# EAGLE library part MCP2561 (library west-eagle-library)
MCP2561/2 High-Speed CAN Transeiver <https://ww1.microchip.com/downloads/en/DeviceDoc/20005167C.pdf>
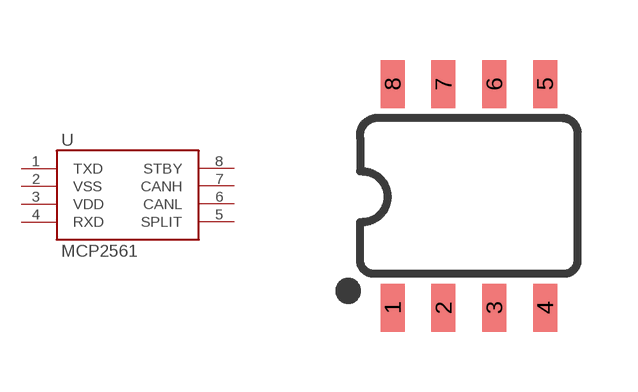
[diagram p1: symbol with the pads of SO08; footprint SO08]

Designator prefix -

## MCP2561  [SO08]
1  TXD
2  VSS
3  VDD
4  RXD
5  SPLIT
6  CANL
7  CANH
8  STBY

## Footprint SO08 (pad centres in mm)
smd 0.6 x 1.2: 1 -1.905,-2.8; 2 -0.635,-2.8; 3 0.635,-2.8; 4 1.905,-2.8; 5 1.905,2.8; 6 0.635,2.8; 7 -0.635,2.8; 8 -1.905,2.8